# EAGLE library part RF-HM_TRP (library moudle)
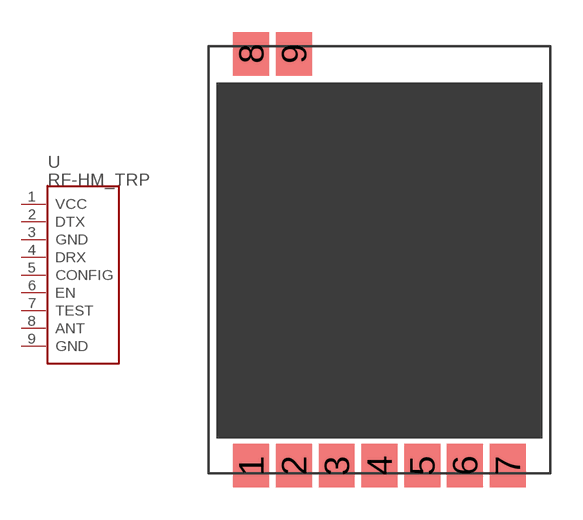
[diagram p19: symbol with the pads of 9P-20X16MM; footprint 9P-20X16MM]

Designator prefix U

## RF-HM_TRP  [9P-20X16MM]
1  VCC
2  DTX
3  GND
4  DRX
5  CONFIG
6  EN
7  TEST
8  ANT
9  GND

## Footprint 9P-20X16MM (pad centres in mm)
smd 1.676 x 2.032: 1 -6,0.365; 2 -4,0.365; 3 -2,0.365; 4 0,0.365; 5 2,0.365; 6 4,0.365; 7 6,0.365; 8 -6,19.635; 9 -4,19.635